# Altium schematic symbol library Transistors.SchLib: 18 symbols
Pins are listed as number, name and electrical type; pins without a type are passive.

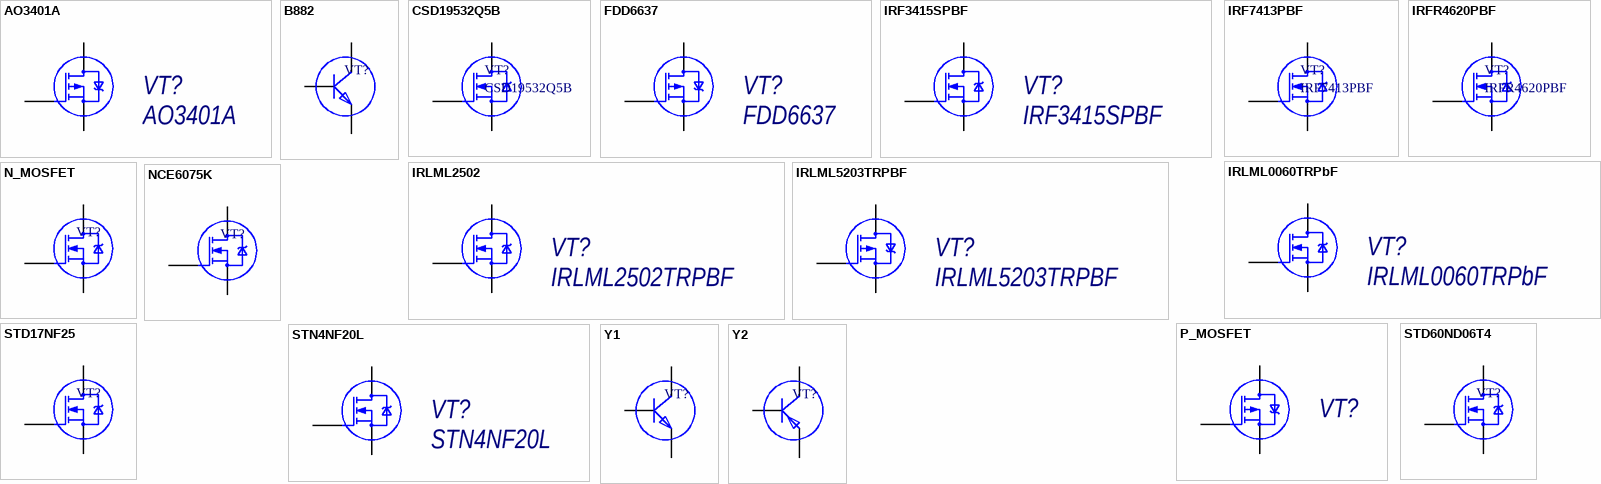
[diagram p0: symbols AO3401A to Y2]

## AO3401A
designator VT?
P-канальный MOSFET транзистор; Manufacturer: UMW; Max. voltage gate-to-source: -10В; Max. voltage drain-to-source: -30В; Max. drain current (continuous); 25C: -4.2А; Resistance of open channel; 10В: 98мОм; Max. power dissipation; 25C: 1,25Вт; Total gate charge: 2,5нКл; Name: AO3401A; Package: SOT23-3
footprint SOT23-3
footprint to220ab
pins: 1 G, 2 D, 3 S

## B882
designator VT?
npn transistor
footprint SOT 89
footprint SOT23-3; pin to pad 2>3 3>2
pins: 1 Base, 2 Collector, 3 Emitter

## CSD19532Q5B
designator VT?
N-канальный транзистор; Manufacturer: Texas Instruments; Max. voltage gate-to-source: ±20 V; Max. drain current (continuous); 25C: 100 A; Max. voltage drain-to-source: 100 V; Resistance of open channel; 10В: 4 mohm; Total gate charge: 48 nC; Max. power dissipation; 25C: 3.1 W; Name: CSD19532Q5B; Package: Q5B
footprint Q5B
pins: 1, 2 G, 3 D

## FDD6637
designator VT?
P-канальный МДП-транзистор; Manufacturer: Fairchild; Max. voltage gate-to-source: +-25В; Max. voltage drain-to-source: -35В; Max. drain current (continuous); 25C: -55А; Resistance of open channel; 14В 10А: 0.0116; Max. power dissipation; 25C: 57Вт; Total gate charge: 45nC; Name: FDD6637; Package: DPAK
footprint DPAK (D-PAK, 3-Pads, Body 6,20x6,66mm (max), IPC Medium Density); pin to pad 1>2 2>3 3>1
footprint SOT23-3; pin to pad 2>3 3>2
pins: 1 G, 2 D, 3 S

## IRF3415SPBF
designator VT?
N-канальный транзистор; Manufacturer: International Rectifier; Max. voltage gate-to-source: ±20В; Max. voltage drain-to-source: 150В; Max. drain current (continuous); 25C: 43А; Resistance of open channel; 10В: 42мОм; Max. power dissipation; 25C: 200Вт; Total gate charge: 2,5нКл; Name: IRF3415SPBF; Package: D2PAK
footprint D2PAK
pins: D, G, S

## IRF7413PBF
designator VT?
N-канальный транзистор; Manufacturer: International Rectifier; Max. voltage gate-to-source: ±20 V; Max. drain current (continuous); 25C: 13 A; Max. voltage drain-to-source: 30 V; Resistance of open channel; 10В: 11 mohm; Total gate charge: 52 nC; Max. power dissipation; 25C: 2,5 W; Name: IRF7413PBF; Package: SO8
footprint SO8
pins: 1, 4 G, 5 D

## IRFR4620PBF
designator VT?
N-канальный транзистор; Manufacturer: International Rectifier; Max. drain current (continuous); 25C: 24 A; Max. power dissipation; 25C: 144 W; Max. voltage drain-to-source: 150 V; Max. voltage gate-to-source: ±20 V; Resistance of open channel; 10В: 72 mohm; Total gate charge: 25 nC; Name: IRFR4620PBF; Package: DPAK
footprint DPAK (D-PAK, 3-Pads, Body 6,20x6,66mm (max), IPC Medium Density)
footprint to220ab
pins: 1 G, 2 D, 3 S

## IRLML0060TRPbF
designator VT?
N-канальный МДП-транзистор; Manufacturer: International Rectifier; Max. voltage gate-to-source: +-16В; Max. voltage drain-to-source: 60В; Max. drain current (continuous); 25C: 2,7А; Resistance of open channel; 10В: 92мОм; Max. power dissipation; 25C: 1,25Вт; Total gate charge: 2,5нКл; Name: IRLML0060TRPbF; Package: SOT23-3
footprint SOT23-3
pins: D, G, S

## IRLML2502
designator VT?, comment IRLML2502TRPBF
N-канальный МДП-транзистор; Manufacturer: Infineon; Max. voltage gate-to-source: +-12В; Max. voltage drain-to-source: 20В; Max. drain current (continuous); 25C: 4,2А; Resistance of open channel; 10В: 45мОм; Max. power dissipation; 25C: 1,25Вт; Total gate charge: 2,5нКл; Name: IRLML2502TRPBF; Package: SOT23-3
footprint SOT23-3
pins: 1 G, 2 S, 3 D

## IRLML5203TRPBF
designator VT?
P-канальный МДП-транзистор; Manufacturer: International Rectifier; Max. voltage gate-to-source: +-16В; Max. voltage drain-to-source: -30В; Max. drain current (continuous); 25C: -3А; Resistance of open channel; 10В: 98мОм; Max. power dissipation; 25C: 1,25Вт; Total gate charge: 2,5нКл; Name: IRLML5203TRPBF; Package: SOT23-3
footprint SOT23-3
footprint to220ab
pins: 1 G, 2 D, 3 S

## N_MOSFET
designator VT?
N-канальный транзистор
footprint SOT223_M (SOT223, 4-Leads, Body 6.5x3.5mm, Pitch 2.3mm, Lead Span 7mm, IPC Low Density)
pins: 1 G, 2 D, 3 S

## NCE6075K
designator VT?
N-канальный транзистор; Datasheet: https://datasheetspdf.com/pdf-file/920278/NCEPower/NCE6075K/1
footprint DPAK (D-PAK, 3-Pads, Body 6,20x6,66mm (max), IPC Medium Density); pin to pad 1>2 2>3 3>1
pins: 1 G, 2 D, 3 S

## P_MOSFET
designator VT?
P-канальный МДП-транзистор
footprint SOT23-3
footprint to220ab
footprint D2PAK; pin to pad 1>2 2>3 3>1
footprint DPAK (D-PAK, 3-Pads, Body 6,20x6,66mm (max), IPC Medium Density); pin to pad 1>2 2>3 3>1
pins: 1 G, 2 D, 3 S

## STD17NF25
designator VT?
N-канальный транзистор; Max. voltage gate-to-source: 20; Max. drain current (continuous); 25C: 17; Max. voltage drain-to-source: 250; Package: DPAK
footprint DPAK right pin nums (Footprint not found)
pins: 1 G, 2 D, 3 S

## STD60ND06T4
designator VT?
N-канальный транзистор
footprint DPAK (D-PAK, 3-Pads, Body 6,20x6,66mm (max), IPC Medium Density); pin to pad 1>2 2>3 3>1
pins: 1 G, 2 D, 3 S

## STN4NF20L
designator VT?
N-канальный МДП-транзистор; Manufacturer: ST Microelectronics; Max. voltage gate-to-source: +-20V; Max. voltage drain-to-source: 200V; Max. drain current (continuous); 25C: 1A; Resistance of open channel; 10В: 1.5Ohm; Max. power dissipation; 25C: 3.3W; Total gate charge: 0.9nC; Name: STN4NF20L; Package: SOT223
footprint SOT223_M (SOT223, 4-Leads, Body 6.5x3.5mm, Pitch 2.3mm, Lead Span 7mm, IPC Low Density); pin to pad 1>2 D>1 S>3
pins: 1 G, D, S

## Y1
designator VT?
npn transistor
footprint SOT23-3; pin to pad 2>3 3>2
pins: 1 Base, 2 Collector, 3 Emitter

## Y2
designator VT?
npn transistor
footprint SOT23-3; pin to pad 2>3 3>2
pins: 1 Base, 2 Collector, 3 Emitter